# EAGLE library part HDC1000 (library My_TI)
HDC1000 edit this description Auto generated by make-symbol-device-package-bsdl.ulp Rev. 43 Source: HDC1000.txt
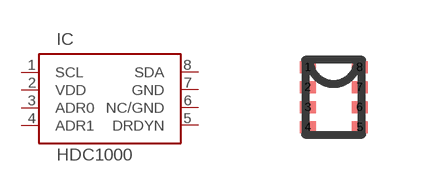
[diagram p5: symbol with the pads of DSBGA-8; footprint DSBGA-8]

Designator prefix IC

## HDC1000  [DSBGA-8]
1  SCL
2  VDD  pwr
3  ADR0
4  ADR1
5  DRDYN
6  NC/GND
7  GND  pwr
8  SDA

## Footprint DSBGA-8 (pad centres in mm)
DSBGA-8 Auto generated by make-symbol-device-package-bsdl.ulp Rev. 43
smd 0.4 x 0.3: 1 -0.65,0.75; 2 -0.65,0.25; 3 -0.65,-0.25; 4 -0.65,-0.75; 5 0.65,-0.75; 6 0.65,-0.25; 7 0.65,0.25; 8 0.65,0.75